# Altium integrated library NSC RF and IF Bluetooth.IntLib: 1 symbol
Pins are listed as number, name and electrical type; pins without a type are passive.

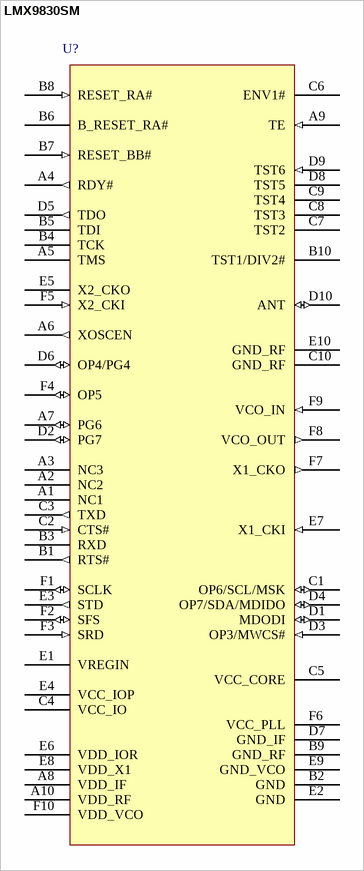
[diagram p0: symbol LMX9830SM]

## LMX9830SM
designator U?
Bluetooth Serial Port module: Integrated Bluetooth 2.0 baseband controller & 2.4GHz radio; Published: 14-Mar-2008; DatasheetVersion: Mar-2006; PackageVersion: revA, Oct-2003; PackageReference: SLF60A; Publisher: Altium Limited; PackageDescription: 60-Ball Plastic Laminate FPGA Rectangular 0.8 mm Pitch (SLF60A); ComponentLink1Description: Manufacturer Link; ComponentLink1URL: http://www.national.com/; ComponentLink2Description: Datasheet; ComponentLink2URL: http://www.national.com/ds.cgi/LM/LMX9830.pdf
footprint SLF60A (BGA, 60-Leads, Body 6x9mm, Pitch 0.8mm)
pins: A1 NC1 "No connect. Place pad for mechanical stability", A2 NC2 "No connect. Place pad for mechanical stability", A3 NC3 "No connect. Place pad for mechanical stability", A4 RDY# (out) "JTAG Ready Output (active low), NC", A5 TMS "JTAG Test Mode Select Input, NC", A6 XOSCEN (out) "Clock Request. Toggles with X2 (LP0) crystal enable/disable", A7 PG6 (io) "GPIO", A8 VDD_IF (power) "Power Supply IF", A9 TE (in) "Test Enable - Used for manufacturing test only. GND", A10 VDD_RF (power) "Power Supply RF", B1 RTS# (out) "Host Serial Port Request To Send (active low). NC (if not used). Pad required for mechanical stability", B2 GND (power), B3 RXD "Host Serial, Port Receive Data", B4 TCK "JTAG Test Clock Input, NC", B5 TDI "JTAG Test Data Input, NC", B6 B_RESET_RA# "Buffered Reset Radio Output (active low). NC", B7 RESET_BB# (in) "Baseband Reset (active low)", B8 RESET_RA# (in) "Radio Reset (active low)", B9 GND_RF (power), B10 TST1/DIV2# "TST1: Test Mode. Leave not connected to permit use with VTune automatic tuning algorithm DIV2#: No longer supported", C1 OP6/SCL/MSK (io) "OP6: Checked during Startup for con-fig option SCL: ACCESS.Bus Clock MSK: SPI Shift", C2 CTS# (in) "Host Serial Port Request To Send (active low). Connect to GND if not used", C3 TXD (out) "Host Serial, Port Transmit Data", C4 VCC_IO (power) "Power Supply I/O", C5 VCC_CORE (power) "1.8V Voltage Regulator Output", C6 ENV1# "ENV1: Environment Select (active low) used for manufacturing test only. NC", C7 TST2 (power) "Test Mode, Connect to GND", C8 TST3 (power) "Test Mode, Connect to GND", C9 TST4 (power) "Test Mode, Connect to GND", C10 GND_RF (power), D1 MDODI (io) "SPI Master Out Slave In. Must use 1Kohm pull up.", D2 PG7 (io) "GPIO - Default setup RF traffic LED indication", D3 OP3/MWCS# (in) "OP3: Checked during Startup for con-fig option MWCS#: SPI Slave Select Input (active low)", D4 OP7/SDA/MDIDO (io) "OP7: Checked during Startup for con-fig option SDA: ACCESS.Bus Serial Data MDIDO: SPI Master In Slave Out", D5 TDO (out) "JTAG Test Data Output, NC", D6 OP4/PG4 (io) "OP4: Checked during Startup for con-fig option PG4: GPIO", D7 GND_IF (power), D8 TST5 (power) "Test Mode, Connect to GND", D9 TST6 (in) "Test Input, Connect to VCO_OUT via 0Ohm resistor to permit use with VTune automatic tuning algorithm", D10 ANT (io) "RF Antenna 50 ohm Nominal Impedance", E1 VREGIN (power) "Voltage Regulator Input", E2 GND (power), E3 STD (out) "Audio PCM Interface Transmit Data Output", E4 VCC_IOP (power) "Power Supply Audio Interface", E5 X2_CKO "32.768 kHz Crystal Oscillator. NC (if not used)", E6 VDD_IOR (power) "Power Supply I/O Radio/BB", E7 X1_CKI (in) "Crystal or External Clock 10-20 MHz", E8 VDD_X1 (power) "Power Supply Crystal Oscillator", E9 GND_VCO (power), E10 GND_RF (power), F1 SCLK (io) "Audio PCM Interface Clock", F2 SFS (io) "Audio PCM Interface Frame Synchronization", F3 SRD (in) "Audio PCM Interface Receive Data Input", F4 OP5 (io) "OP5: Checked during Startup for con-fig option", F5 X2_CKI (in) "32.768 kHz Crystal Oscillator. GND (if not used)", F6 VCC_PLL (power) "1.8V Core Logic Power Supply Output", F7 X1_CKO (out) "Crystal 10-20 MHz", F8 VCO_OUT (out) "Charge Pump Output, connect to Loop filter", F9 VCO_IN (in) "VCO Tuning Input, feedback from Loop filter", F10 VDD_VCO (power) "Power Supply VCO"